# Altium footprint library GT_16u2_Rev2.PcbLib: 2 footprints
Each footprint in its own frame and in the unit in brackets; x right, y up, seen from the top. Pads: shape width x height; smd on the part's side, far side on the other; paste and mask are expansions set on the pad; w line width, h text height; cw(c..) or ccw(c..) is an arc to the next point about the centre after c.
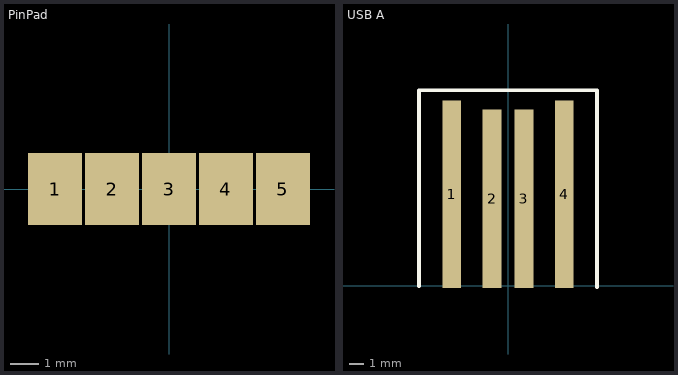
[diagram p0: the footprints below, top view; thin cyan lines are the x and y axes]

## PinPad [mm]
pads (5):
  rect 1.9x2.54 smd mask+0.05: 1(-4,0) 2(-2,0) 3(0,0) 4(2,0) 5(4,0)

## USB A [mil]
pads (4):
  rect 50x500 smd: 1(-150,245) 4(150,245)
  rect 50x475 smd: 2(-42.5,232.5) 3(42.5,232.5)
Top Overlay:
  lines w10: -237.5,0 -237.5,521.99 ; 237.48,-2.99 237.48,522.01 -237.52,522.01 ; -237.52,522.01 -237.5,521.99